# Altium footprint library PcbLib1.PcbLib: 29 footprints (part 2 of 2)
Each footprint in its own frame and in the unit in brackets; x right, y up, seen from the top. Pads: shape width x height; smd on the part's side, far side on the other; paste and mask are expansions set on the pad; w line width, h text height; cw(c..) or ccw(c..) is an arc to the next point about the centre after c.
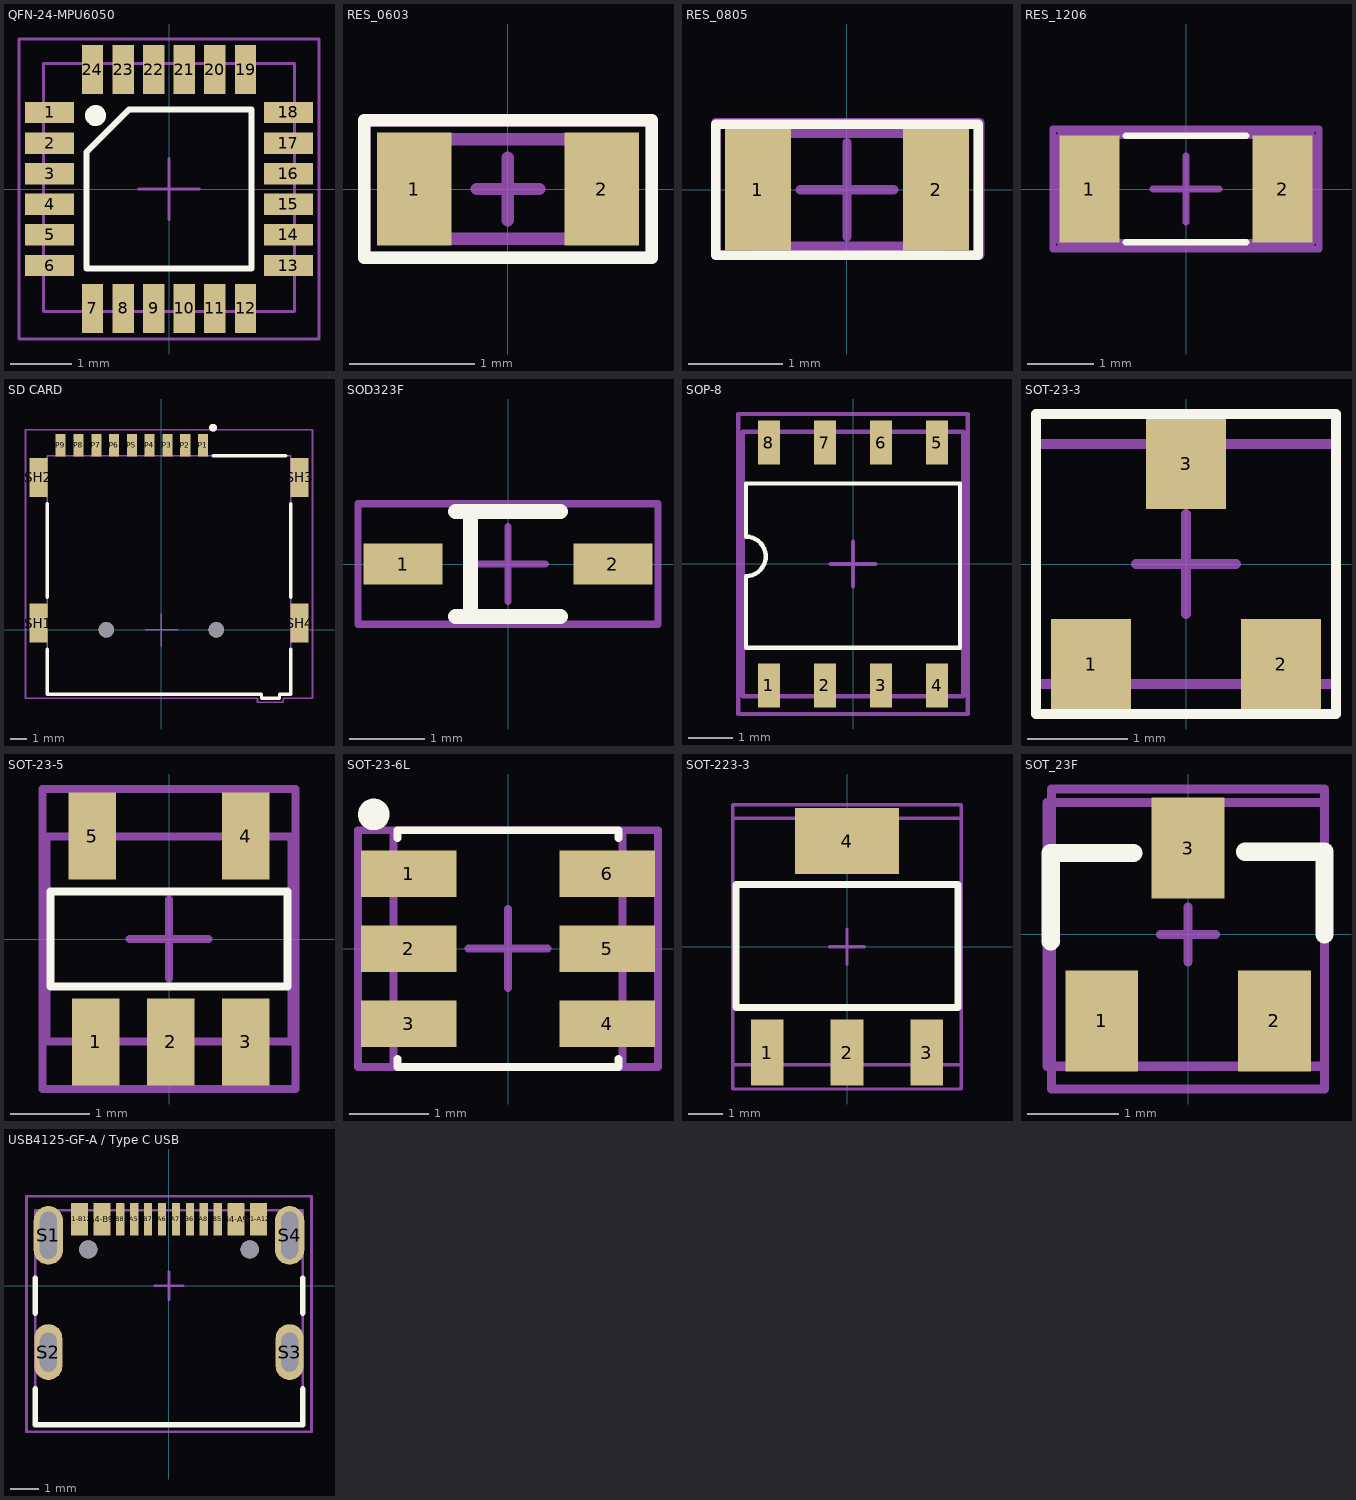
[diagram p1: the footprints below, top view; thin cyan lines are the x and y axes]

## QFN-24-MPU6050 [mm]
pads (24):
  rect 0.8x0.35 smd mask+0.05: 1(-1.95,1.25) 2(-1.95,0.75) 3(-1.95,0.25) 4(-1.95,-0.25) 5(-1.95,-0.75) 6(-1.95,-1.25) 13(1.95,-1.25) 14(1.95,-0.75) 15(1.95,-0.25) 16(1.95,0.25) 17(1.95,0.75) 18(1.95,1.25)
  rect 0.35x0.8 smd mask+0.05: 7(-1.25,-1.95) 8(-0.75,-1.95) 9(-0.25,-1.95) 10(0.25,-1.95) 11(0.75,-1.95) 12(1.25,-1.95) 19(1.25,1.95) 20(0.75,1.95) 21(0.25,1.95) 22(-0.25,1.95) 23(-0.75,1.95) 24(-1.25,1.95)
Top Overlay:
  circle w0.2: c-1.2,1.2 r0.071
  lines w0.1: -1.35,-1.3 -1.35,0.6 -0.65,1.3 1.35,1.3 1.35,0 1.35,-1.3 -1.35,-1.3
Top 3D Body:
  circle w0.2: c-1.2,1.2 r0.071
  lines w0.05: -2.05,-2 2.05,-2 2.05,2.05 -2.05,2.05 -2.05,-2
Top Component Center:
  lines w0.05: -0.5,0 0.5,0 ; 0,-0.5 0,0.5 ; -2.45,-2.45 2.45,-2.45 2.45,2.45 -2.45,2.45 -2.45,-2.45
Top Designator:
  lines w0.05: -2.45,-2.45 -2.45,2.45 2.45,2.45 2.45,-2.45 -2.45,-2.45
  text "'.Designator'" at -2.05,-0.45 h0.5
3D body "User Library-mpu-6050_qfn-24.step": height 0.91, standoff 0.01, extent -2.02,-2 2.02,2.04

## RES_0603 [mm]
pads (2):
  rect 0.6x0.9 smd mask+0.05: 1(-0.75,0) 2(0.75,0)
Top Overlay:
  lines w0.1: -1.15,-0.55 1.15,-0.55 1.15,0.55 -1.15,0.55 -1.15,-0.55
Top 3D Body:
  lines w0.1: -0.8,-0.4 -0.8,0.4 0.8,0.4 0.8,-0.4 -0.8,-0.4
Top Component Center:
  lines w0.1: -0.25,0 0.25,0 ; 0,-0.25 0,0.25 ; -1.15,-0.55 -1.15,0.55 1.15,0.55 1.15,-0.55 -1.15,-0.55
Top Designator:
  lines w0.1: -1.15,-0.55 1.15,-0.55 1.15,0.55 -1.15,0.55 -1.15,-0.55
  text "'.Designator'" at -1.15,-0.55 h0.5
3D body "RESC0603 v2.step": height 0.45, standoff 0, extent -0.8,-0.4 0.8,0.4

## RES_0805 [mm]
pads (2):
  rect 0.7x1.3 smd mask+0.05: 1(-0.95,0) 2(0.95,0)
Top Overlay:
  lines w0.1: -1.4,-0.7 -1.4,0.7 1.4,0.7 1.4,-0.7 -1.4,-0.7
Top 3D Body:
  lines w0.1: -1,-0.6 -1,0.6 1,0.6 1,-0.6 -1,-0.6
Top Component Center:
  lines w0.1: -0.5,0 0.5,0 ; 0,-0.5 0,0.5 ; -1.4,-0.7 -1.4,0.716 1.416,0.716 1.416,-0.7 -1.4,-0.7
Top Designator:
  lines w0.1: -1.4,-0.7 1.4,-0.7 1.4,0.7 -1.4,0.7 -1.4,-0.7
  text "'.Designator'" at -1.4,-0.4 h0.5
3D body "RESC0805 v1.step": height 0.45, standoff 0, extent -1,-0.6 1,0.6

## RES_1206 [mm]
pads (2):
  rect 0.9x1.6 smd mask+0.05: 1(-1.45,0) 2(1.45,0)
Top Overlay:
  lines w0.1: -0.9,-0.8 0.9,-0.8 ; -0.9,0.8 0.9,0.8
Top 3D Body:
  lines w0.1: -1.6,-0.8 1.6,-0.8 1.6,0.8 -1.6,0.8 -1.6,-0.8
Top Component Center:
  lines w0.1: -0.5,0 0.5,0 ; 0,-0.5 0,0.5 ; -2,-0.9 -2,0.9 2,0.9 2,-0.9 -2,-0.9
Top Designator:
  lines w0.1: -1.9,-0.8 1.9,-0.8 1.9,0.8 -1.9,0.8 -1.9,-0.8
  text "'.Designator'" at -2,-0.5 h0.5
3D body "RESC1206 v1.step": height 0.55, standoff 0, extent -1.6,-0.8 1.6,0.8

## SD CARD [mm]
pads (15):
  rect 0.62x1.4 smd mask+0.05: P1(2.58,11.42) P2(1.48,11.42) P3(0.38,11.42) P4(-0.72,11.42) P5(-1.82,11.42) P6(-2.92,11.42) P7(-4.02,11.42) P8(-5.12,11.42) P9(-6.22,11.42)
  rect 1.1x2.4 smd mask+0.05: SH1(-7.6,0.42) SH2(-7.6,9.42) SH3(8.55,9.42) SH4(8.55,0.42)
  round 0.95 hole 0.95 unplated: ""(-3.4,0) ""(3.4,0)
Top Overlay:
  circle w0.24: c3.2,12.5 r0.12
  lines w0.2: -7.05,-1.2 -7.05,-3.98 6.2,-3.98 6.2,-4.23 7.3,-4.23 7.3,-3.98 8,-3.98 8,-1.2 ; -7.05,2 -7.05,7.8 ; 3.2,10.77 7.7,10.77 ; 8,2 8,7.8
Top Component Center:
  lines w0.1: -1,0 1,0 ; 0,-1 0,1 ; -8.4,-4.23 5.95,-4.23 5.95,-4.48 7.55,-4.48 7.55,-4.23 9.35,-4.23 9.35,12.37 -8.4,12.37 -8.4,-4.23
Top Designator:
  lines w0.1: -8.4,-4.23 5.95,-4.23 5.95,-4.48 7.55,-4.48 7.55,-4.23 9.35,-4.23 9.35,12.37 -8.4,12.37 -8.4,-4.23
  text "'.Designator'" at -3.2,-0.5 h0.6
Mechanical 13:
  circle w0.24: c3.2,12.5 r0.12
  lines w0.1: -7.05,-3.98 -7.05,10.77 8,10.77 8,-3.98 7.3,-3.98 7.3,-4.23 6.2,-4.23 6.2,-3.98 -7.05,-3.98
3D body "MEM2075-00-140-01-A--3DModel-STEP-56544.STEP": height 1.46, standoff -0.59, extent -7.74,-3.869 8.7,11.981

## SOD323F [mm]
pads (2):
  rect 1.05x0.55 smd mask+0.05: 1(-1.4,0) 2(1.4,0)
Top Overlay:
  lines w0.2: -0.7,-0.7 0.7,-0.7 ; -0.7,0.7 0.7,0.7 ; -0.5,-0.7 -0.5,0.7
Top Component Center:
  lines w0.1: -0.5,0 0.5,0 ; 0,-0.5 0,0.5 ; -2,-0.8 2,-0.8 2,0.8 -2,0.8 -2,0.4 -2,-0.8
Top Designator:
  lines w0.1: -2,-0.8 -2,0.4 -2,0.8 2,0.8 2,-0.8 -2,-0.8
  text "'.Designator'" at -2.5,-0.5 h0.5
3D body "User Library-SOD323F-1.step": height 1.01, standoff 0.01, extent -1.25,-0.675 1.25,0.675

## SOP-8 [mm]
pads (8):
  rect 0.5x1 smd mask+0.05: 1(-1.905,-2.75) 2(-0.635,-2.75) 3(0.635,-2.75) 4(1.905,-2.75) 5(1.905,2.75) 6(0.635,2.75) 7(-0.635,2.75) 8(-1.905,2.75)
Top Overlay:
  lines w0.1: -2.425,-1.9 2.425,-1.9 2.425,1.825 -2.425,1.825 -2.425,0.95 -2.425,0.619 cw(c-2.425,0.172) -2.425,-0.275 -2.425,-0.8 -2.425,-1.9
Top 3D Body:
  lines w0.1: -2.5,-3 2.5,-3 2.5,3 -2.5,3 -2.5,-3
Top Component Center:
  lines w0.1: -0.5,0 0.5,0 ; 0,-0.5 0,0.5 ; -2.6,-3.4 -2.6,3.4 2.6,3.4 2.6,-3.4 -2.6,-3.4
Top Designator:
  lines w0.1: -2.6,-3.4 -2.6,3.4 2.6,3.4 2.6,-3.4 -2.6,-3.4
  text "'.Designator'" at -3.4,-0.9 h1
3D body "User Library-sop8_model.STEP": height 1.57, standoff 0.01, extent -2.439,-3.016 2.461,2.964

## SOT-23-3 [mm]
pads (3):
  rect 0.8x0.9 smd mask+0.05: 1(-0.95,-1) 2(0.95,-1) 3(0,1)
Top Overlay:
  lines w0.1: -1.5,-1.5 -1.5,1.5 1.5,1.5 1.5,-1.5 -1.5,-1.5
Top 3D Body:
  lines w0.1: -1.5,-1.2 -1.5,1.2 1.5,1.2 1.5,-1.2 -1.5,-1.2
Top Component Center:
  lines w0.1: -0.5,0 0.5,0 ; 0,-0.5 0,0.5 ; -1.5,-1.5 -1.5,1.5 1.5,1.5 1.5,-1.5 -1.5,-1.5
Top Designator:
  lines w0.1: -1.5,-1.5 1.5,-1.5 1.5,1.5 -1.5,1.5 -1.5,-1.5
  text "'.Designator'" at -2.1,-0.5 h0.6
3D body "2n7002.stp": height 1.01, standoff 0.01, extent -1.45,-1.15 1.45,1.15

## SOT-23-5 [mm]
pads (5):
  rect 0.6x1.1 smd mask+0.05: 1(-0.927,-1.304) 2(0.023,-1.304) 3(0.973,-1.304) 4(0.973,1.304) 5(-0.973,1.304)
Top Overlay:
  lines w0.1: -1.5,-0.6 -1.5,0.6 1.5,0.6 1.5,-0.6 -1.5,-0.6
Top 3D Body:
  lines w0.1: -1.55,-1.3 -1.55,1.3 1.55,1.3 1.55,-1.3 -1.55,-1.3
Top Component Center:
  lines w0.1: -0.5,0 0.5,0 ; 0,-0.5 0,0.5 ; -1.6,-1.9 1.6,-1.9 1.6,1.9 -1.6,1.9 -1.6,-1.9
Top Designator:
  lines w0.1: -1.6,-1.9 -1.6,1.9 1.6,1.9 1.6,-1.9 -1.6,-1.9
  text "'.Designator'" at -2.2,-0.7 h0.7
3D body "CircuitWorks-SOT-23-5.step": height 1.11, standoff 0.01, extent -1.5,-1.25 1.5,1.25

## SOT-23-6L [mm]
pads (6):
  rect 1.21x0.59 smd mask+0.05: 1(-1.255,0.95) 2(-1.255,0) 3(-1.255,-0.95) 4(1.255,-0.95) 5(1.255,0) 6(1.255,0.95)
Top Overlay:
  circle w0.2: c-1.7,1.7 r0.1
  lines w0.1: -1.4,-1.4 -1.4,-1.5 1.4,-1.5 1.4,-1.4 ; -1.4,1.4 -1.4,1.5 1.4,1.5 1.4,1.4
Top 3D Body:
  lines w0.1: -1.45,-1.5 -1.45,1.5 1.45,1.5 1.45,-1.5 -1.45,-1.5
Top Component Center:
  lines w0.1: -0.5,0 0.5,0 ; 0,-0.5 0,0.5 ; -1.9,-1.5 1.9,-1.5 1.9,1.5 -1.4,1.5 -1.9,1.5 -1.9,-1.5
Top Designator:
  lines w0.1: -1.9,-1.5 1.9,-1.5 1.9,1.5 -1.4,1.5 -1.9,1.5 -1.9,-1.5
  text "'.Designator'" at -2.1,-1.5 h1.4
3D body "usblc6-2sc6.stp": height 1.18, standoff 0, extent -1.4,-1.446 1.4,1.45

## SOT-223-3 [mm]
pads (5):
  rect 0.95x1.9 smd mask+0.05: 1(-2.3,-3.05) 2(0,-3.05) 3(2.3,-3.05) ""(-2.3,-3.05)
  rect 3x1.9 smd mask+0.05: 4(0,3.05)
Top Overlay:
  lines w0.2: -3.2,-1.75 3.2,-1.75 3.2,1.8 -3.2,1.8 -3.2,-1.75
Top 3D Body:
  lines w0.1: -3.3,-3.4 3.3,-3.4 3.3,3.7 -3.3,3.7 -3.3,-3.4
Top Component Center:
  lines w0.1: -0.5,0 0.5,0 ; 0,-0.5 0,0.5 ; -3.3,-4.1 -3.3,4.1 3.3,4.1 3.3,-4.1 -3.3,-4.1
Top Designator:
  lines w0.1: -3.3,-4.1 3.3,-4.1 3.3,4.1 -3.3,4.1 -3.3,-4.1
  text "'.Designator'" at -4.1,-0.9 h1
3D body "DB.STEP": height 1.8, standoff 0, extent -3.25,-3.349 3.25,3.649

## SOT_23F [mm]
pads (3):
  rect 0.8x1.11 smd mask+0.05: 1(-0.95,-0.95) 2(0.95,-0.95) 3(0,0.95)
Top Overlay:
  lines w0.2: -1.51,-0.075 -1.51,0.896 -0.6,0.896 ; 0.625,0.91 1.5,0.91 1.5,0
Top 3D Body:
  lines w0.1: -1.55,-1.45 1.5,-1.45 1.5,1.45 -1.55,1.45 -1.55,-1.45
Top Component Center:
  lines w0.1: -0.3,0 0.3,0 ; 0,-0.3 0,0.3 ; -1.5,-1.7 1.5,-1.7 1.5,1.6 -1.5,1.6 -1.5,-1.7
Top Designator:
  lines w0.1: -1.5,-1.7 -1.5,1.6 1.5,1.6 1.5,-1.7 -1.5,-1.7
  text "'.Designator'" at -1.5,-1 h1
3D body "SOT23-3.stp": height 1.2, standoff 0.02, extent -1.5,-1.418 1.5,1.418

## USB4125-GF-A / Type C USB [mm]
pads (18):
  rect 0.6x1.15 smd mask+0.05: A1-B12(-3.2,2.378) A4-B9(-2.4,2.378) B1-A12(3.2,2.378) B4-A9(2.4,2.378)
  rect 0.3x1.15 smd mask+0.05: A5(-1.25,2.378) A6(-0.25,2.378) A7(0.25,2.378) A8(1.25,2.378) B5(1.75,2.378) B6(0.75,2.378) B7(-0.75,2.378) B8(-1.75,2.378)
  oval 1.05x2.1 hole 0.6 slot 1.7 at 90 deg: S1(-4.32,1.803) S4(4.32,1.803)
  oval 1x2 hole 0.6 slot 1.4 at 90 deg: S2(-4.32,-2.377) S3(4.32,-2.377)
  round 0.65 hole 0.65 unplated: ""(-2.89,1.303) ""(2.89,1.303)
Top Overlay:
  lines w0.2: -4.79,-3.697 -4.79,-4.977 4.79,-4.977 4.79,-3.697 ; -4.79,-0.977 -4.79,0.273 ; 4.79,-0.977 4.79,0.273
Top 3D Body:
  lines w0.1: -4.79,-4.977 4.79,-4.977 4.79,2.7 -4.79,2.7 -4.79,-4.977
Top Component Center:
  lines w0.1: -0.5,0 0.5,0 ; 0,-0.5 0,0.5 ; -5.1,-5.227 5.1,-5.227 5.1,3.203 -5.1,3.203 -5.1,-5.227
Top Designator:
  lines w0.1: -5.1,-5.227 -5.1,3.203 5.1,3.203 5.1,-5.227 -5.1,-5.227
  text "'.Designator'" at -5.6,-1.9 h1
3D body "step_temp.STEP": height 3.31, standoff -0.85, extent -4.79,-4.977 4.79,2.733